# Altium schematic symbol library MOSFET_P.Schlib: 1 symbol
Pins are listed as number, name and electrical type; pins without a type are passive.

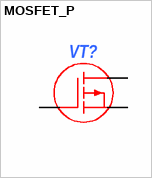
[diagram p0: symbol MOSFET_P]

## MOSFET_P
designator VT?
pins: 1 G, 2 D, 3 S